# Altium schematic symbol library KMS2xxGLFS.SchLib: 1 symbol
Pins are listed as number, name and electrical type; pins without a type are passive.

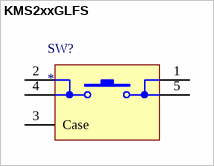
[diagram p0: symbol KMS2xxGLFS]

## KMS2xxGLFS
designator SW?
pins: 1, 2, 3 Case, 4, 5